# EAGLE library part ICM-20602 (library SamacSys_Parts)
High Performance 6-Axis MEMS MotionTracking Device, QFN-16 Source: Datasheet <https://www.invensense.com/wp-content/uploads/2015/12/ICM-20602-Product-Brief-v1.0.pdf>
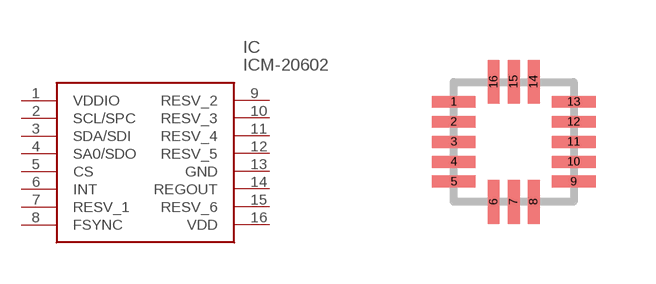
[diagram p8: symbol with the pads of PULL-BACK-QFN-16; footprint PULL-BACK-QFN-16]

Designator prefix IC

## ICM-20602 (DESCRIPTION: High Performance 6-Axis MEMS MotionTracking Device, QFN-16; HEIGHT: mm; MANUFACTURER_NAME: InvenSense Inc.; MANUFACTURER_PART_NUMBER: ICM-20602; MOUSER_PART_NUMBER: 410-ICM-20602; MOUSER_PRICE-STOCK: https://www.mouser.com/Search/Refine.aspx?Keyword=410-ICM-20602; RS_PART_NUMBER: 410-ICM-20602; RS_PRICE-STOCK: https://www.mouser.com/Search/Refine.aspx?Keyword=410-ICM-20602)  [PULL-BACK-QFN-16]
1  VDDIO
2  SCL/SPC
3  SDA/SDI
4  SA0/SDO
5  CS
6  INT
7  RESV_1
8  FSYNC
9  RESV_2
10  RESV_3
11  RESV_4
12  RESV_5
13  GND
14  REGOUT
15  RESV_6
16  VDD

## Footprint PULL-BACK-QFN-16 (pad centres in mm)
Pull-back-QFN-16
smd 1.1 x 0.3: 1 -1.5,1; 2 -1.5,0.5; 3 -1.5,0; 4 -1.5,-0.5; 5 -1.5,-1; 9 1.5,-1; 10 1.5,-0.5; 11 1.5,0; 12 1.5,0.5; 13 1.5,1
smd 0.3 x 1.1: 6 -0.5,-1.5; 7 0,-1.5; 8 0.5,-1.5; 14 0.5,1.5; 15 0,1.5; 16 -0.5,1.5